# Altium schematic symbol library connector_lib.SchLib: 5 symbols
Pins are listed as number, name and electrical type; pins without a type are passive.

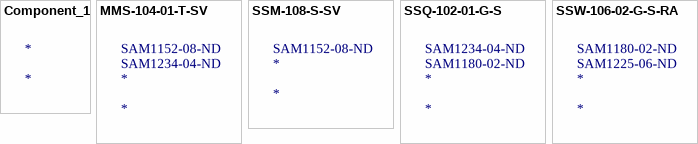
[diagram p0: symbols Component_1 to SSW-106-02-G-S-RA]

## Component_1
designator *

## MMS-104-01-T-SV
designator *  Supplier Part Number 1: SAM1234-04-ND  Supplier Part Number 2: SAM1152-08-ND
Headers & Wire Housings Surface Mount PCB Socket Strips, 0.100 pitch; Manufacturer: Samtec; Manufacturer Part Number: MMS-104-01-T-SV; Description: Conn Socket Strip SKT 4 POS 2mm Solder ST Thru-Hole Tube; Number of Contacts: 4; Gender: Female; Connector Type: Receptacle; Contact Resistance: 10mR; Pitch: 2mm; Max Current Rating: 6.9A; Max Voltage Rating (AC): 475V; Supplier 1: Digi-Key; RoHS: Yes; Category: Headers and Wire Housings; Stock 1: 1556; Mount: Through Hole; Contact Plating: Tin,Matte; Contact Material: Bronze; Housing Material: Polymer; Color: Black; Housing Color: Black; Min Operating Temperature: -55°C; Max Operating Temperature: 105°C; Number of Rows: 1; Packaging: Bulk; Termination: Solder; Orientation: Vertical; Series: MMS; Number of Positions: 4; Contact Type: Female Socket; Length: 8.56mm; Width: 2mm; Depth: 2mm; Lead Free: Lead Free; RoHS Compliant: Yes; ComponentLink1URL: https://datasheet.ciiva.com/747/mms01mkt-747339.pdf?src-supplier=Digi-Key; ComponentLink1Description: https://datasheet.ciiva.com/747/mms01mkt-747339.pdf?src-supplier=Digi-Key; Supplier 2: Digi-Key; Radiation Hardening: No; ComponentLink2URL: https://datasheet.ciiva.com/746/ssm-1xx-xxx-xx-xx-xx-x-xx-xx-mkt-746931.pdf?src-supplier=Digi-Key; ComponentLink2Description: https://datasheet.ciiva.com/746/ssm-1xx-xxx-xx-xx-xx-x-xx-xx-mkt-746931.pdf?src-supplier=Digi-Key

## SSM-108-S-SV
designator *  Supplier Part Number 1: SAM1152-08-ND
Headers & Wire Housings Surface Mount PCB Socket Strips, 0.100 pitch; Manufacturer: Samtec; Manufacturer Part Number: SSM-108-S-SV; Max Current Rating: 6.9A; Max Voltage Rating (AC): 475V; Number of Contacts: 8; Gender: Female; Connector Type: Receptacle; Contact Resistance: 10mR; Pitch: 2.54mm; Supplier 1: Digi-Key; RoHS: Yes; Category: Headers and Wire Housings; Mount: Surface Mount; Contact Plating: Gold; Contact Material: Bronze; Housing Material: Polymer; Color: Black; Housing Color: Black; Min Operating Temperature: -55°C; Max Operating Temperature: 125°C; Packaging: Bulk; Termination: Solder; Orientation: Straight; Number of Rows: 1; Number of Positions: 8; Series: SSM; Contact Type: Female Socket; Length: 20.32mm; Width: 2.54mm; Depth: 4.42mm; Radiation Hardening: No; RoHS Compliant: Yes; Lead Free: Lead Free; ComponentLink1URL: https://datasheet.ciiva.com/746/ssm-1xx-xxx-xx-xx-xx-x-xx-xx-mkt-746931.pdf?src-supplier=Digi-Key; ComponentLink1Description: https://datasheet.ciiva.com/746/ssm-1xx-xxx-xx-xx-xx-x-xx-xx-mkt-746931.pdf?src-supplier=Digi-Key

## SSQ-102-01-G-S
designator *  Supplier Part Number 1: SAM1180-02-ND  Supplier Part Number 2: SAM1234-04-ND
Conn Socket Strip SKT 4 POS 2mm Solder ST Thru-Hole Tube; Manufacturer: Samtec; Manufacturer Part Number: SSQ-102-01-G-S; Description: Headers & Wire Housings Tiger Buy Socket Strip with Square Tails, 0.100 Pitch; Number of Contacts: 2; Max Current Rating: 7.6A; Gender: Receptacle; Voltage Rating: 550V; Contact Resistance: 10mR; Pitch: 2.54mm; Supplier 1: Digi-Key; RoHS: Yes; Category: Headers and Wire Housings; Stock 1: 1869; Mount: Through Hole; Contact Material: Bronze; Color: Black; Housing Material: Polymer; Contact Plating: Gold; Housing Color: Black; Min Operating Temperature: -55°C; Max Operating Temperature: 125°C; Number of Rows: 1; Packaging: Bulk; Termination: Solder; Number of Positions: 2; Orientation: Vertical; Series: SSQ; Connector Type: Receptacle; Current Rating: 7.6A; Contact Type: Female Socket; Max Voltage Rating (AC): 550V; Length: 5.59mm; Depth: 2.41mm; Radiation Hardening: No; REACH SVHC: No SVHC; Lead Free: Lead Free; RoHS Compliant: Yes; ComponentLink1URL: https://datasheet.ciiva.com/25617/0900766b81159fd6-25617381.pdf?src-supplier=RSComponents; ComponentLink1Description: https://datasheet.ciiva.com/25617/0900766b81159fd6-25617381.pdf?src-supplier=RSComponents; ComponentLink2URL: https://datasheet.ciiva.com/22677/82032-22677596.pdf?src-supplier=Element14; ComponentLink2Description: https://datasheet.ciiva.com/22677/82032-22677596.pdf?src-supplier=Element14; ComponentLink3URL: https://datasheet.ciiva.com/748/ssq-1xx-xx-xxx-x-xx-xxx-xx-x-mkt-748393.pdf?src-supplier=Digi-Key; ComponentLink3Description: https://datasheet.ciiva.com/748/ssq-1xx-xx-xxx-x-xx-xxx-xx-x-mkt-748393.pdf?src-supplier=Digi-Key; Supplier 2: Digi-Key; Stock 2: 1556; Width: 2mm; ComponentLink4URL: https://datasheet.ciiva.com/747/mms01mkt-747339.pdf?src-supplier=Digi-Key; ComponentLink4Description: https://datasheet.ciiva.com/747/mms01mkt-747339.pdf?src-supplier=Digi-Key

## SSW-106-02-G-S-RA
designator *  Supplier Part Number 1: SAM1225-06-ND  Supplier Part Number 2: SAM1180-02-ND
Headers & Wire Housings Tiger Buy Socket Strip with Square Tails, 0.100 Pitch; Manufacturer: Samtec; Manufacturer Part Number: SSW-106-02-G-S-RA; Description: Conn Socket Strip SKT 6 POS 2.54mm Solder RA Side Entry Thru-Hole Tube; Number of Contacts: 6; Gender: Receptacle; Current Rating: 6.9A; Max Voltage Rating (AC): 550V; Contact Resistance: 10mR; Mating Cycles: 100; Pitch: 2.54mm; Supplier 1: Digi-Key; RoHS: Yes; Category: Headers and Wire Housings; Stock 1: 2072; Mount: Through Hole; Housing Material: Polymer; Contact Material: Bronze; Contact Plating: Gold; Color: Black; Housing Color: Black; Min Operating Temperature: -55°C; Max Operating Temperature: 125°C; Packaging: Bulk; Termination: Solder; Orientation: Right Angle; Connector Type: Receptacle; Number of Positions: 6; Series: SSW; Number of Rows: 1; Max Current Rating: 6.9A; Contact Type: Female Socket; Voltage Rating: 550V; Length: 15.75mm; Depth: 10.03mm; Radiation Hardening: No; REACH SVHC: No SVHC; RoHS Compliant: Yes; Lead Free: Lead Free; ComponentLink1URL: https://datasheet.ciiva.com/25617/0900766b8115c03d-25617516.pdf?src-supplier=RSComponents; ComponentLink1Description: https://datasheet.ciiva.com/25617/0900766b8115c03d-25617516.pdf?src-supplier=RSComponents; ComponentLink2URL: https://datasheet.ciiva.com/22677/82032-22677496.pdf?src-supplier=Element14; ComponentLink2Description: https://datasheet.ciiva.com/22677/82032-22677496.pdf?src-supplier=Element14; ComponentLink3URL: https://datasheet.ciiva.com/750/ssw-1xx-xx-xxx-x-xx-xxx-xx-mkt-750270.pdf?src-supplier=Digi-Key; ComponentLink3Description: https://datasheet.ciiva.com/750/ssw-1xx-xx-xxx-x-xx-xxx-xx-mkt-750270.pdf?src-supplier=Digi-Key; Supplier 2: Digi-Key; Stock 2: 1869; ComponentLink4URL: https://datasheet.ciiva.com/25617/0900766b81159fd6-25617381.pdf?src-supplier=RSComponents; ComponentLink4Description: https://datasheet.ciiva.com/25617/0900766b81159fd6-25617381.pdf?src-supplier=RSComponents; ComponentLink5URL: https://datasheet.ciiva.com/22677/82032-22677596.pdf?src-supplier=Element14; ComponentLink5Description: https://datasheet.ciiva.com/22677/82032-22677596.pdf?src-supplier=Element14; ComponentLink6URL: https://datasheet.ciiva.com/748/ssq-1xx-xx-xxx-x-xx-xxx-xx-x-mkt-748393.pdf?src-supplier=Digi-Key; ComponentLink6Description: https://datasheet.ciiva.com/748/ssq-1xx-xx-xxx-x-xx-xxx-xx-x-mkt-748393.pdf?src-supplier=Digi-Key